# EAGLE library part DRV2605LTDGSRQ1 (library DRV2605LTDGSRQ1)
None
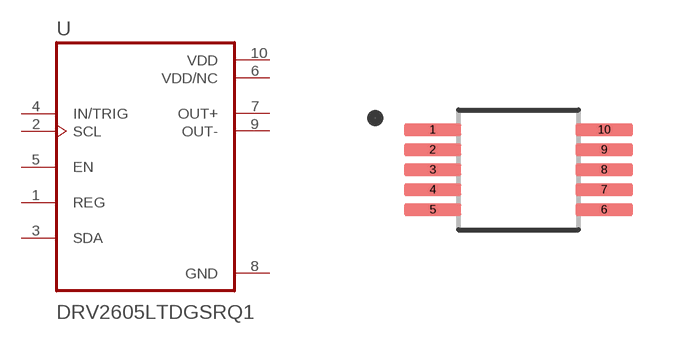
[diagram p0: symbol with the pads of SOP50P490X110-10N; footprint SOP50P490X110-10N]

Designator prefix U

## DRV2605LTDGSRQ1 (AVAILABILITY: Unavailable; DESCRIPTION: Haptic Driver for ERM and LRA With Built-In Library and Smart Loop A 10-VSSOP -40 to 105; MF: Texas Instruments; MP: DRV2605LTDGSRQ1; PACKAGE: TFSOP-10 Texas Instruments; PRICE: None)  [SOP50P490X110-10N]
1  REG
2  SCL  in
3  SDA
4  IN/TRIG  in
5  EN
6  VDD/NC  pwr
7  OUT+  out
8  GND  pwr
9  OUT-  out
10  VDD  pwr

## Footprint SOP50P490X110-10N (pad centres in mm)
smd 1.44 x 0.3: 1 -2.145,1; 2 -2.145,0.5; 3 -2.145,0; 4 -2.145,-0.5; 5 -2.145,-1; 6 2.145,-1; 7 2.145,-0.5; 8 2.145,0; 9 2.145,0.5; 10 2.145,1